# Altium schematic symbol library 可控硅.SchLib: 525 symbols (part 2 of 2)
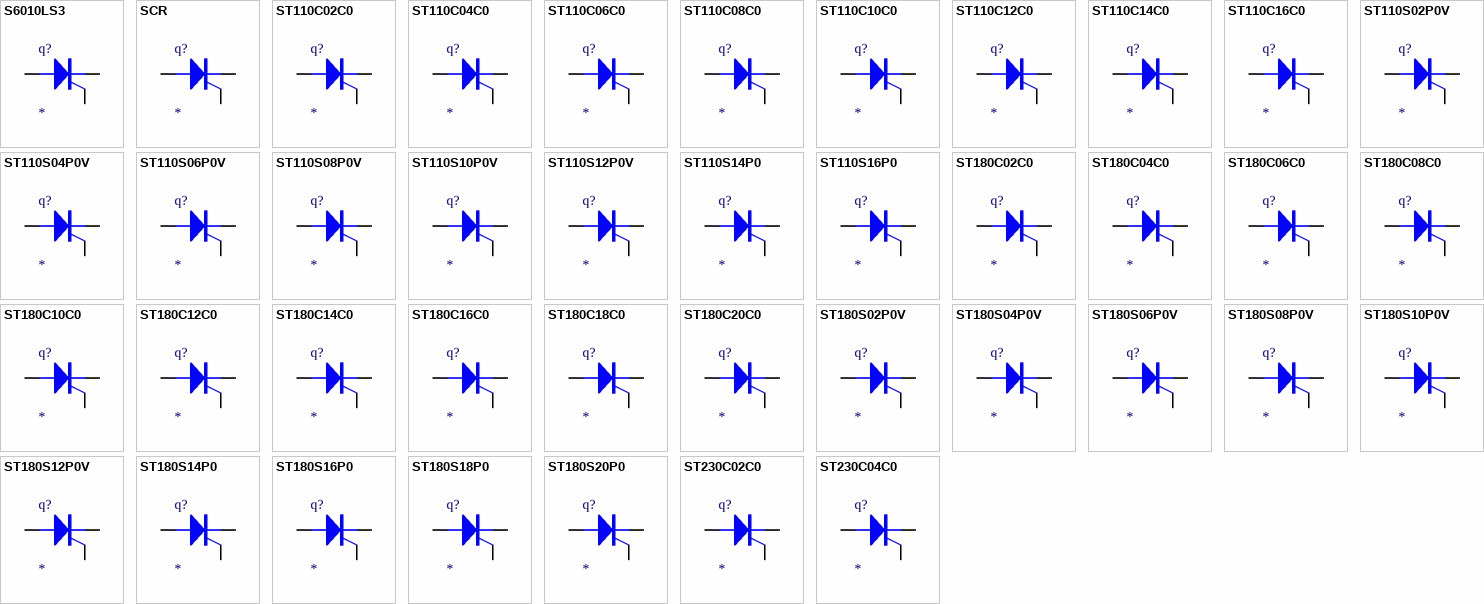
[diagram p14: symbols S6010LS3 to ST230C04C0]

## ST180C08C0
designator q?
Silicon Controlled Rectifier
simulation model ST180C08C0 (SUBCKT)
pins: 1 A, 2 G, 3 K
1 alternate drawing of the same symbol

## ST180C10C0
designator q?
Silicon Controlled Rectifier
simulation model ST180C10C0 (SUBCKT)
pins: 1 A, 2 G, 3 K
1 alternate drawing of the same symbol

## ST180C12C0
designator q?
Silicon Controlled Rectifier
simulation model ST180C12C0 (SUBCKT)
pins: 1 A, 2 G, 3 K
1 alternate drawing of the same symbol

## ST180C14C0
designator q?
Silicon Controlled Rectifier
simulation model ST180C14C0 (SUBCKT)
pins: 1 A, 2 G, 3 K
1 alternate drawing of the same symbol

## ST180C16C0
designator q?
Silicon Controlled Rectifier
simulation model ST180C16C0 (SUBCKT)
pins: 1 A, 2 G, 3 K
1 alternate drawing of the same symbol

## ST180C18C0
designator q?
Silicon Controlled Rectifier
simulation model ST180C18C0 (SUBCKT)
pins: 1 A, 2 G, 3 K
1 alternate drawing of the same symbol

## ST180C20C0
designator q?
Silicon Controlled Rectifier
simulation model ST180C20C0 (SUBCKT)
pins: 1 A, 2 G, 3 K
1 alternate drawing of the same symbol

## ST180S02P0V
designator q?
Silicon Controlled Rectifier
simulation model ST180S02P0V (SUBCKT)
pins: 1 A, 2 G, 3 K
1 alternate drawing of the same symbol

## ST180S04P0V
designator q?
Silicon Controlled Rectifier
simulation model ST180S04P0V (SUBCKT)
pins: 1 A, 2 G, 3 K
1 alternate drawing of the same symbol

## ST180S06P0V
designator q?
Silicon Controlled Rectifier
simulation model ST180S06P0V (SUBCKT)
pins: 1 A, 2 G, 3 K
1 alternate drawing of the same symbol

## ST180S08P0V
designator q?
Silicon Controlled Rectifier
simulation model ST180S08P0V (SUBCKT)
pins: 1 A, 2 G, 3 K
1 alternate drawing of the same symbol

## ST180S10P0V
designator q?
Silicon Controlled Rectifier
simulation model ST180S10P0V (SUBCKT)
pins: 1 A, 2 G, 3 K
1 alternate drawing of the same symbol

## ST180S12P0V
designator q?
Silicon Controlled Rectifier
simulation model ST180S12P0V (SUBCKT)
pins: 1 A, 2 G, 3 K
1 alternate drawing of the same symbol

## ST180S14P0
designator q?
Silicon Controlled Rectifier
simulation model ST180S14P0 (SUBCKT)
pins: 1 A, 2 G, 3 K
1 alternate drawing of the same symbol

## ST180S16P0
designator q?
Silicon Controlled Rectifier
simulation model ST180S16P0 (SUBCKT)
pins: 1 A, 2 G, 3 K
1 alternate drawing of the same symbol

## ST180S18P0
designator q?
Silicon Controlled Rectifier
simulation model ST180S18P0 (SUBCKT)
pins: 1 A, 2 G, 3 K
1 alternate drawing of the same symbol

## ST180S20P0
designator q?
Silicon Controlled Rectifier
simulation model ST180S20P0 (SUBCKT)
pins: 1 A, 2 G, 3 K
1 alternate drawing of the same symbol

## ST230C02C0
designator q?
Silicon Controlled Rectifier
simulation model ST230C02C0 (SUBCKT)
pins: 1 A, 2 G, 3 K
1 alternate drawing of the same symbol

## ST230C04C0
designator q?
Silicon Controlled Rectifier
simulation model ST230C04C0 (SUBCKT)
pins: 1 A, 2 G, 3 K
1 alternate drawing of the same symbol

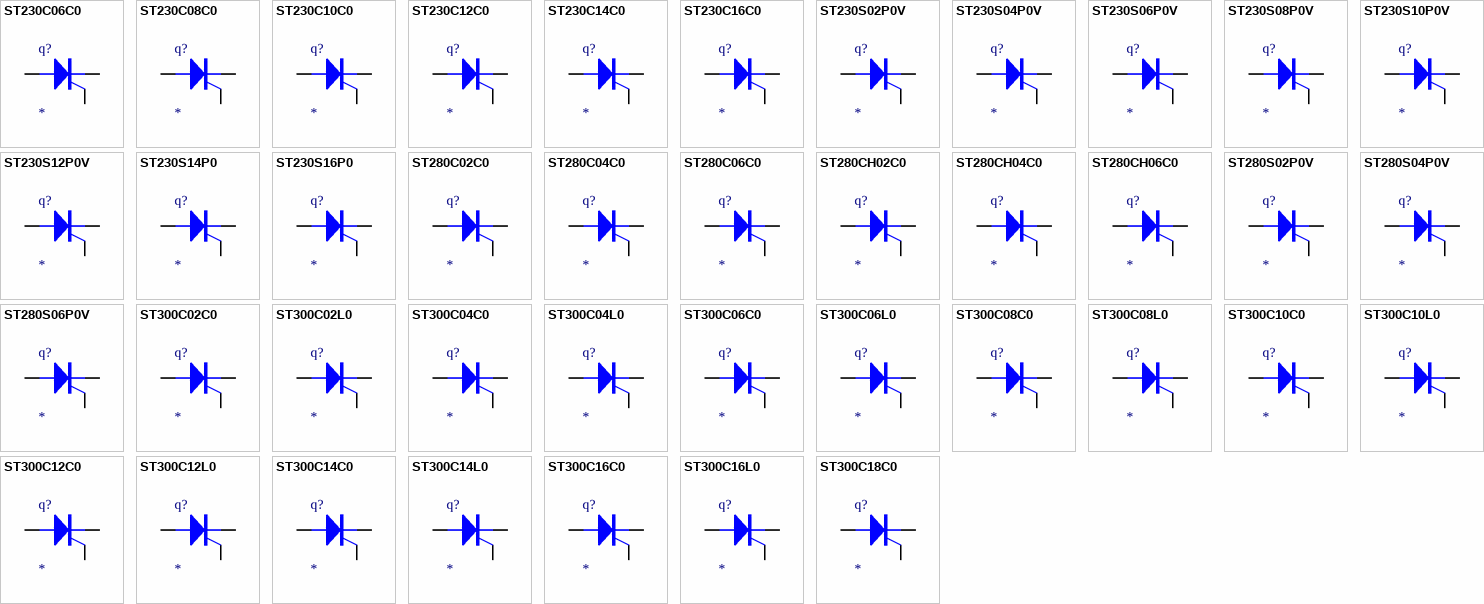
[diagram p9: symbols ST230C06C0 to ST300C18C0]

## ST230C06C0
designator q?
Silicon Controlled Rectifier
simulation model ST230C06C0 (SUBCKT)
pins: 1 A, 2 G, 3 K
1 alternate drawing of the same symbol

## ST230C08C0
designator q?
Silicon Controlled Rectifier
simulation model ST230C08C0 (SUBCKT)
pins: 1 A, 2 G, 3 K
1 alternate drawing of the same symbol

## ST230C10C0
designator q?
Silicon Controlled Rectifier
simulation model ST230C10C0 (SUBCKT)
pins: 1 A, 2 G, 3 K
1 alternate drawing of the same symbol

## ST230C12C0
designator q?
Silicon Controlled Rectifier
simulation model ST230C12C0 (SUBCKT)
pins: 1 A, 2 G, 3 K
1 alternate drawing of the same symbol

## ST230C14C0
designator q?
Silicon Controlled Rectifier
simulation model ST230C14C0 (SUBCKT)
pins: 1 A, 2 G, 3 K
1 alternate drawing of the same symbol

## ST230C16C0
designator q?
Silicon Controlled Rectifier
simulation model ST230C16C0 (SUBCKT)
pins: 1 A, 2 G, 3 K
1 alternate drawing of the same symbol

## ST230S02P0V
designator q?
Silicon Controlled Rectifier
simulation model ST230S02P0V (SUBCKT)
pins: 1 A, 2 G, 3 K
1 alternate drawing of the same symbol

## ST230S04P0V
designator q?
Silicon Controlled Rectifier
simulation model ST230S04P0V (SUBCKT)
pins: 1 A, 2 G, 3 K
1 alternate drawing of the same symbol

## ST230S06P0V
designator q?
Silicon Controlled Rectifier
simulation model ST230S06P0V (SUBCKT)
pins: 1 A, 2 G, 3 K
1 alternate drawing of the same symbol

## ST230S08P0V
designator q?
Silicon Controlled Rectifier
simulation model ST230S08P0V (SUBCKT)
pins: 1 A, 2 G, 3 K
1 alternate drawing of the same symbol

## ST230S10P0V
designator q?
Silicon Controlled Rectifier
simulation model ST230S10P0V (SUBCKT)
pins: 1 A, 2 G, 3 K
1 alternate drawing of the same symbol

## ST230S12P0V
designator q?
Silicon Controlled Rectifier
simulation model ST230S12P0V (SUBCKT)
pins: 1 A, 2 G, 3 K
1 alternate drawing of the same symbol

## ST230S14P0
designator q?
Silicon Controlled Rectifier
simulation model ST230S14P0 (SUBCKT)
pins: 1 A, 2 G, 3 K
1 alternate drawing of the same symbol

## ST230S16P0
designator q?
Silicon Controlled Rectifier
simulation model ST230S16P0 (SUBCKT)
pins: 1 A, 2 G, 3 K
1 alternate drawing of the same symbol

## ST280C02C0
designator q?
Silicon Controlled Rectifier
simulation model ST280C02C0 (SUBCKT)
pins: 1 A, 2 G, 3 K
1 alternate drawing of the same symbol

## ST280C04C0
designator q?
Silicon Controlled Rectifier
simulation model ST280C04C0 (SUBCKT)
pins: 1 A, 2 G, 3 K
1 alternate drawing of the same symbol

## ST280C06C0
designator q?
Silicon Controlled Rectifier
simulation model ST280C06C0 (SUBCKT)
pins: 1 A, 2 G, 3 K
1 alternate drawing of the same symbol

## ST280CH02C0
designator q?
Silicon Controlled Rectifier
simulation model ST280CH02C0 (SUBCKT)
pins: 1 A, 2 G, 3 K
1 alternate drawing of the same symbol

## ST280CH04C0
designator q?
Silicon Controlled Rectifier
simulation model ST280CH04C0 (SUBCKT)
pins: 1 A, 2 G, 3 K
1 alternate drawing of the same symbol

## ST280CH06C0
designator q?
Silicon Controlled Rectifier
simulation model ST280CH06C0 (SUBCKT)
pins: 1 A, 2 G, 3 K
1 alternate drawing of the same symbol

## ST280S02P0V
designator q?
Silicon Controlled Rectifier
simulation model ST280S02P0V (SUBCKT)
pins: 1 A, 2 G, 3 K
1 alternate drawing of the same symbol

## ST280S04P0V
designator q?
Silicon Controlled Rectifier
simulation model ST280S04P0V (SUBCKT)
pins: 1 A, 2 G, 3 K
1 alternate drawing of the same symbol

## ST280S06P0V
designator q?
Silicon Controlled Rectifier
simulation model ST280S06P0V (SUBCKT)
pins: 1 A, 2 G, 3 K
1 alternate drawing of the same symbol

## ST300C02C0
designator q?
Silicon Controlled Rectifier
simulation model ST300C02C0 (SUBCKT)
pins: 1 A, 2 G, 3 K
1 alternate drawing of the same symbol

## ST300C02L0
designator q?
Silicon Controlled Rectifier
simulation model ST300C02L0 (SUBCKT)
pins: 1 A, 2 G, 3 K
1 alternate drawing of the same symbol

## ST300C04C0
designator q?
Silicon Controlled Rectifier
simulation model ST300C04C0 (SUBCKT)
pins: 1 A, 2 G, 3 K
1 alternate drawing of the same symbol

## ST300C04L0
designator q?
Silicon Controlled Rectifier
simulation model ST300C04L0 (SUBCKT)
pins: 1 A, 2 G, 3 K
1 alternate drawing of the same symbol

## ST300C06C0
designator q?
Silicon Controlled Rectifier
simulation model ST300C06C0 (SUBCKT)
pins: 1 A, 2 G, 3 K
1 alternate drawing of the same symbol

## ST300C06L0
designator q?
Silicon Controlled Rectifier
simulation model ST300C06L0 (SUBCKT)
pins: 1 A, 2 G, 3 K
1 alternate drawing of the same symbol

## ST300C08C0
designator q?
Silicon Controlled Rectifier
simulation model ST300C08C0 (SUBCKT)
pins: 1 A, 2 G, 3 K
1 alternate drawing of the same symbol

## ST300C08L0
designator q?
Silicon Controlled Rectifier
simulation model ST300C08L0 (SUBCKT)
pins: 1 A, 2 G, 3 K
1 alternate drawing of the same symbol

## ST300C10C0
designator q?
Silicon Controlled Rectifier
simulation model ST300C10C0 (SUBCKT)
pins: 1 A, 2 G, 3 K
1 alternate drawing of the same symbol

## ST300C10L0
designator q?
Silicon Controlled Rectifier
simulation model ST300C10L0 (SUBCKT)
pins: 1 A, 2 G, 3 K
1 alternate drawing of the same symbol

## ST300C12C0
designator q?
Silicon Controlled Rectifier
simulation model ST300C12C0 (SUBCKT)
pins: 1 A, 2 G, 3 K
1 alternate drawing of the same symbol

## ST300C12L0
designator q?
Silicon Controlled Rectifier
simulation model ST300C12L0 (SUBCKT)
pins: 1 A, 2 G, 3 K
1 alternate drawing of the same symbol

## ST300C14C0
designator q?
Silicon Controlled Rectifier
simulation model ST300C14C0 (SUBCKT)
pins: 1 A, 2 G, 3 K
1 alternate drawing of the same symbol

## ST300C14L0
designator q?
Silicon Controlled Rectifier
simulation model ST300C14L0 (SUBCKT)
pins: 1 A, 2 G, 3 K
1 alternate drawing of the same symbol

## ST300C16C0
designator q?
Silicon Controlled Rectifier
simulation model ST300C16C0 (SUBCKT)
pins: 1 A, 2 G, 3 K
1 alternate drawing of the same symbol

## ST300C16L0
designator q?
Silicon Controlled Rectifier
simulation model ST300C16L0 (SUBCKT)
pins: 1 A, 2 G, 3 K
1 alternate drawing of the same symbol

## ST300C18C0
designator q?
Silicon Controlled Rectifier
simulation model ST300C18C0 (SUBCKT)
pins: 1 A, 2 G, 3 K
1 alternate drawing of the same symbol

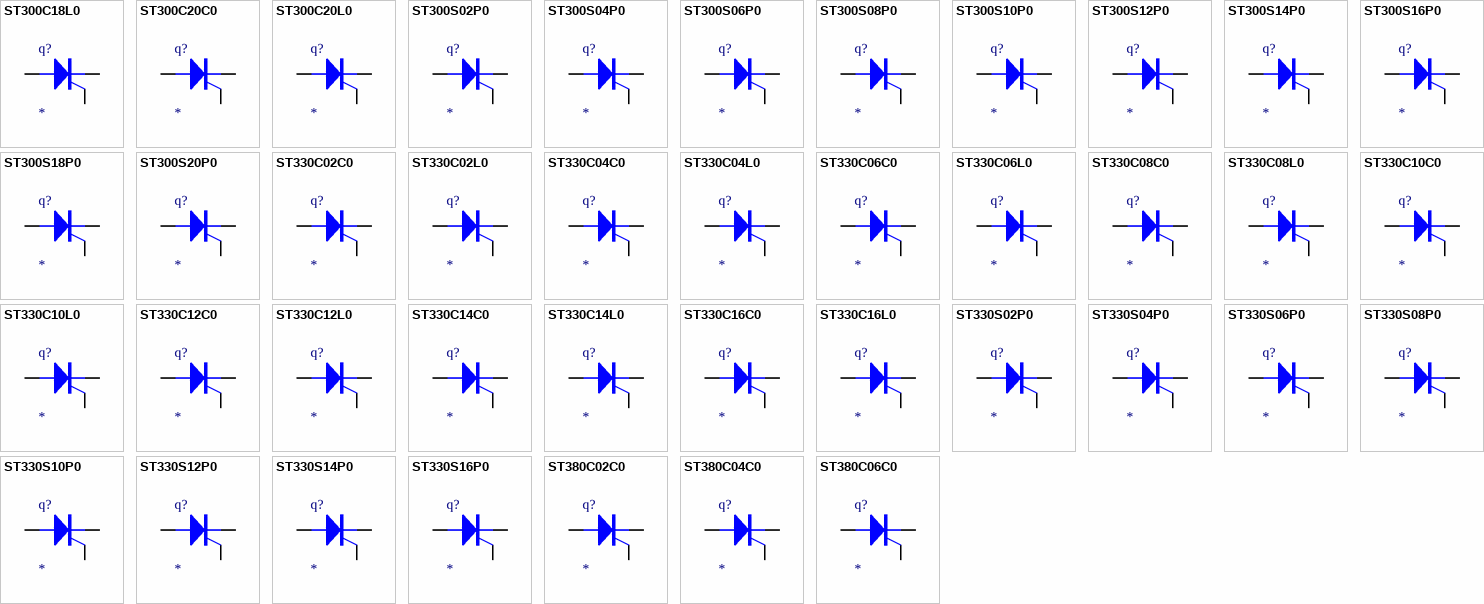
[diagram p10: symbols ST300C18L0 to ST380C06C0]

## ST300C18L0
designator q?
Silicon Controlled Rectifier
simulation model ST300C18L0 (SUBCKT)
pins: 1 A, 2 G, 3 K
1 alternate drawing of the same symbol

## ST300C20C0
designator q?
Silicon Controlled Rectifier
simulation model ST300C20C0 (SUBCKT)
pins: 1 A, 2 G, 3 K
1 alternate drawing of the same symbol

## ST300C20L0
designator q?
Silicon Controlled Rectifier
simulation model ST300C20L0 (SUBCKT)
pins: 1 A, 2 G, 3 K
1 alternate drawing of the same symbol

## ST300S02P0
designator q?
Silicon Controlled Rectifier
simulation model ST300S02P0 (SUBCKT)
pins: 1 A, 2 G, 3 K
1 alternate drawing of the same symbol

## ST300S04P0
designator q?
Silicon Controlled Rectifier
simulation model ST300S04P0 (SUBCKT)
pins: 1 A, 2 G, 3 K
1 alternate drawing of the same symbol

## ST300S06P0
designator q?
Silicon Controlled Rectifier
simulation model ST300S06P0 (SUBCKT)
pins: 1 A, 2 G, 3 K
1 alternate drawing of the same symbol

## ST300S08P0
designator q?
Silicon Controlled Rectifier
simulation model ST300S08P0 (SUBCKT)
pins: 1 A, 2 G, 3 K
1 alternate drawing of the same symbol

## ST300S10P0
designator q?
Silicon Controlled Rectifier
simulation model ST300S10P0 (SUBCKT)
pins: 1 A, 2 G, 3 K
1 alternate drawing of the same symbol

## ST300S12P0
designator q?
Silicon Controlled Rectifier
simulation model ST300S12P0 (SUBCKT)
pins: 1 A, 2 G, 3 K
1 alternate drawing of the same symbol

## ST300S14P0
designator q?
Silicon Controlled Rectifier
simulation model ST300S14P0 (SUBCKT)
pins: 1 A, 2 G, 3 K
1 alternate drawing of the same symbol

## ST300S16P0
designator q?
Silicon Controlled Rectifier
simulation model ST300S16P0 (SUBCKT)
pins: 1 A, 2 G, 3 K
1 alternate drawing of the same symbol

## ST300S18P0
designator q?
Silicon Controlled Rectifier
simulation model ST300S18P0 (SUBCKT)
pins: 1 A, 2 G, 3 K
1 alternate drawing of the same symbol

## ST300S20P0
designator q?
Silicon Controlled Rectifier
simulation model ST300S20P0 (SUBCKT)
pins: 1 A, 2 G, 3 K
1 alternate drawing of the same symbol

## ST330C02C0
designator q?
Silicon Controlled Rectifier
simulation model ST330C02C0 (SUBCKT)
pins: 1 A, 2 G, 3 K
1 alternate drawing of the same symbol

## ST330C02L0
designator q?
Silicon Controlled Rectifier
simulation model ST330C02L0 (SUBCKT)
pins: 1 A, 2 G, 3 K
1 alternate drawing of the same symbol

## ST330C04C0
designator q?
Silicon Controlled Rectifier
simulation model ST330C04C0 (SUBCKT)
pins: 1 A, 2 G, 3 K
1 alternate drawing of the same symbol

## ST330C04L0
designator q?
Silicon Controlled Rectifier
simulation model ST330C04L0 (SUBCKT)
pins: 1 A, 2 G, 3 K
1 alternate drawing of the same symbol

## ST330C06C0
designator q?
Silicon Controlled Rectifier
simulation model ST330C06C0 (SUBCKT)
pins: 1 A, 2 G, 3 K
1 alternate drawing of the same symbol

## ST330C06L0
designator q?
Silicon Controlled Rectifier
simulation model ST330C06L0 (SUBCKT)
pins: 1 A, 2 G, 3 K
1 alternate drawing of the same symbol

## ST330C08C0
designator q?
Silicon Controlled Rectifier
simulation model ST330C08C0 (SUBCKT)
pins: 1 A, 2 G, 3 K
1 alternate drawing of the same symbol

## ST330C08L0
designator q?
Silicon Controlled Rectifier
simulation model ST330C08L0 (SUBCKT)
pins: 1 A, 2 G, 3 K
1 alternate drawing of the same symbol

## ST330C10C0
designator q?
Silicon Controlled Rectifier
simulation model ST330C10C0 (SUBCKT)
pins: 1 A, 2 G, 3 K
1 alternate drawing of the same symbol

## ST330C10L0
designator q?
Silicon Controlled Rectifier
simulation model ST330C10L0 (SUBCKT)
pins: 1 A, 2 G, 3 K
1 alternate drawing of the same symbol

## ST330C12C0
designator q?
Silicon Controlled Rectifier
simulation model ST330C12C0 (SUBCKT)
pins: 1 A, 2 G, 3 K
1 alternate drawing of the same symbol

## ST330C12L0
designator q?
Silicon Controlled Rectifier
simulation model ST330C12L0 (SUBCKT)
pins: 1 A, 2 G, 3 K
1 alternate drawing of the same symbol

## ST330C14C0
designator q?
Silicon Controlled Rectifier
simulation model ST330C14C0 (SUBCKT)
pins: 1 A, 2 G, 3 K
1 alternate drawing of the same symbol

## ST330C14L0
designator q?
Silicon Controlled Rectifier
simulation model ST330C14L0 (SUBCKT)
pins: 1 A, 2 G, 3 K
1 alternate drawing of the same symbol

## ST330C16C0
designator q?
Silicon Controlled Rectifier
simulation model ST330C16C0 (SUBCKT)
pins: 1 A, 2 G, 3 K
1 alternate drawing of the same symbol

## ST330C16L0
designator q?
Silicon Controlled Rectifier
simulation model ST330C16L0 (SUBCKT)
pins: 1 A, 2 G, 3 K
1 alternate drawing of the same symbol

## ST330S02P0
designator q?
Silicon Controlled Rectifier
simulation model ST330S02P0 (SUBCKT)
pins: 1 A, 2 G, 3 K
1 alternate drawing of the same symbol

## ST330S04P0
designator q?
Silicon Controlled Rectifier
simulation model ST330S04P0 (SUBCKT)
pins: 1 A, 2 G, 3 K
1 alternate drawing of the same symbol

## ST330S06P0
designator q?
Silicon Controlled Rectifier
simulation model ST330S06P0 (SUBCKT)
pins: 1 A, 2 G, 3 K
1 alternate drawing of the same symbol

## ST330S08P0
designator q?
Silicon Controlled Rectifier
simulation model ST330S08P0 (SUBCKT)
pins: 1 A, 2 G, 3 K
1 alternate drawing of the same symbol

## ST330S10P0
designator q?
Silicon Controlled Rectifier
simulation model ST330S10P0 (SUBCKT)
pins: 1 A, 2 G, 3 K
1 alternate drawing of the same symbol

## ST330S12P0
designator q?
Silicon Controlled Rectifier
simulation model ST330S12P0 (SUBCKT)
pins: 1 A, 2 G, 3 K
1 alternate drawing of the same symbol

## ST330S14P0
designator q?
Silicon Controlled Rectifier
simulation model ST330S14P0 (SUBCKT)
pins: 1 A, 2 G, 3 K
1 alternate drawing of the same symbol

## ST330S16P0
designator q?
Silicon Controlled Rectifier
simulation model ST330S16P0 (SUBCKT)
pins: 1 A, 2 G, 3 K
1 alternate drawing of the same symbol

## ST380C02C0
designator q?
Silicon Controlled Rectifier
simulation model ST380C02C0 (SUBCKT)
pins: 1 A, 2 G, 3 K
1 alternate drawing of the same symbol

## ST380C04C0
designator q?
Silicon Controlled Rectifier
simulation model ST380C04C0 (SUBCKT)
pins: 1 A, 2 G, 3 K
1 alternate drawing of the same symbol

## ST380C06C0
designator q?
Silicon Controlled Rectifier
simulation model ST380C06C0 (SUBCKT)
pins: 1 A, 2 G, 3 K
1 alternate drawing of the same symbol

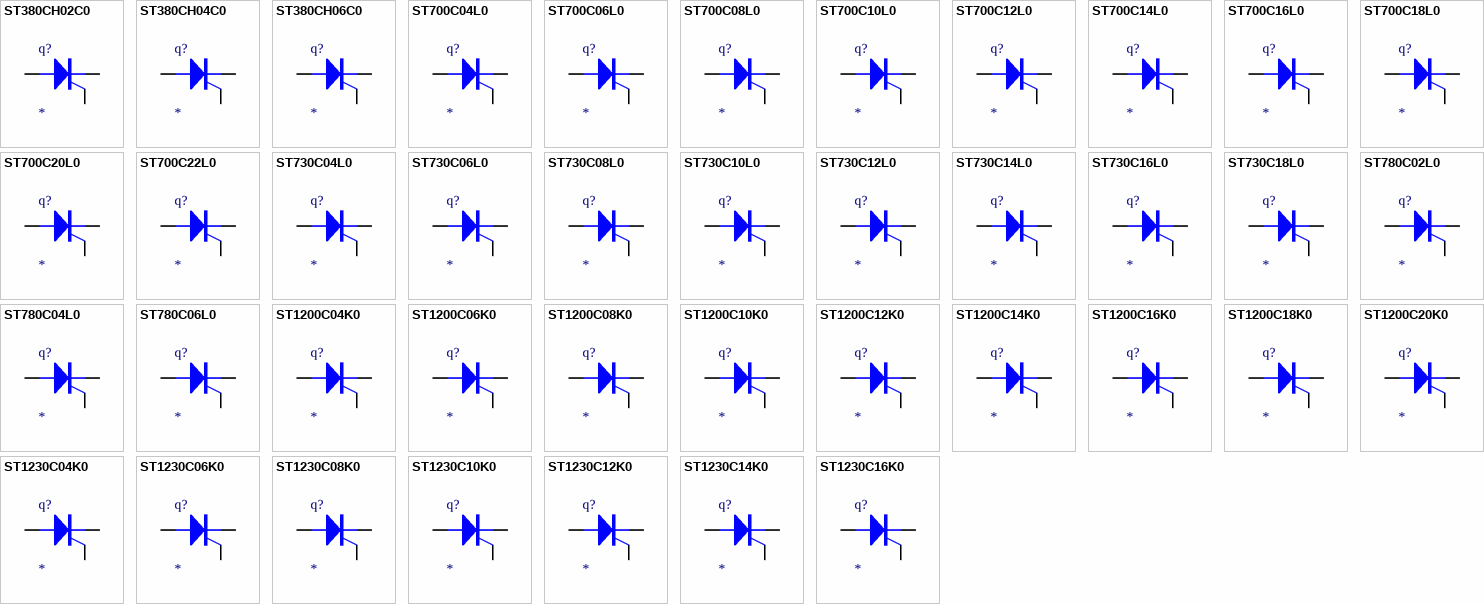
[diagram p11: symbols ST380CH02C0 to ST1230C16K0]

## ST380CH02C0
designator q?
Silicon Controlled Rectifier
simulation model ST380CH02C0 (SUBCKT)
pins: 1 A, 2 G, 3 K
1 alternate drawing of the same symbol

## ST380CH04C0
designator q?
Silicon Controlled Rectifier
simulation model ST380CH04C0 (SUBCKT)
pins: 1 A, 2 G, 3 K
1 alternate drawing of the same symbol

## ST380CH06C0
designator q?
Silicon Controlled Rectifier
simulation model ST380CH06C0 (SUBCKT)
pins: 1 A, 2 G, 3 K
1 alternate drawing of the same symbol

## ST700C04L0
designator q?
Silicon Controlled Rectifier
simulation model ST700C04L0 (SUBCKT)
pins: 1 A, 2 G, 3 K
1 alternate drawing of the same symbol

## ST700C06L0
designator q?
Silicon Controlled Rectifier
simulation model ST700C06L0 (SUBCKT)
pins: 1 A, 2 G, 3 K
1 alternate drawing of the same symbol

## ST700C08L0
designator q?
Silicon Controlled Rectifier
simulation model ST700C08L0 (SUBCKT)
pins: 1 A, 2 G, 3 K
1 alternate drawing of the same symbol

## ST700C10L0
designator q?
Silicon Controlled Rectifier
simulation model ST700C10L0 (SUBCKT)
pins: 1 A, 2 G, 3 K
1 alternate drawing of the same symbol

## ST700C12L0
designator q?
Silicon Controlled Rectifier
simulation model ST700C12L0 (SUBCKT)
pins: 1 A, 2 G, 3 K
1 alternate drawing of the same symbol

## ST700C14L0
designator q?
Silicon Controlled Rectifier
simulation model ST700C14L0 (SUBCKT)
pins: 1 A, 2 G, 3 K
1 alternate drawing of the same symbol

## ST700C16L0
designator q?
Silicon Controlled Rectifier
simulation model ST700C16L0 (SUBCKT)
pins: 1 A, 2 G, 3 K
1 alternate drawing of the same symbol

## ST700C18L0
designator q?
Silicon Controlled Rectifier
simulation model ST700C18L0 (SUBCKT)
pins: 1 A, 2 G, 3 K
1 alternate drawing of the same symbol

## ST700C20L0
designator q?
Silicon Controlled Rectifier
simulation model ST700C20L0 (SUBCKT)
pins: 1 A, 2 G, 3 K
1 alternate drawing of the same symbol

## ST700C22L0
designator q?
Silicon Controlled Rectifier
simulation model ST700C22L0 (SUBCKT)
pins: 1 A, 2 G, 3 K
1 alternate drawing of the same symbol

## ST730C04L0
designator q?
Silicon Controlled Rectifier
simulation model ST730C04L0 (SUBCKT)
pins: 1 A, 2 G, 3 K
1 alternate drawing of the same symbol

## ST730C06L0
designator q?
Silicon Controlled Rectifier
simulation model ST730C06L0 (SUBCKT)
pins: 1 A, 2 G, 3 K
1 alternate drawing of the same symbol

## ST730C08L0
designator q?
Silicon Controlled Rectifier
simulation model ST730C08L0 (SUBCKT)
pins: 1 A, 2 G, 3 K
1 alternate drawing of the same symbol

## ST730C10L0
designator q?
Silicon Controlled Rectifier
simulation model ST730C10L0 (SUBCKT)
pins: 1 A, 2 G, 3 K
1 alternate drawing of the same symbol

## ST730C12L0
designator q?
Silicon Controlled Rectifier
simulation model ST730C12L0 (SUBCKT)
pins: 1 A, 2 G, 3 K
1 alternate drawing of the same symbol

## ST730C14L0
designator q?
Silicon Controlled Rectifier
simulation model ST730C14L0 (SUBCKT)
pins: 1 A, 2 G, 3 K
1 alternate drawing of the same symbol

## ST730C16L0
designator q?
Silicon Controlled Rectifier
simulation model ST730C16L0 (SUBCKT)
pins: 1 A, 2 G, 3 K
1 alternate drawing of the same symbol

## ST730C18L0
designator q?
Silicon Controlled Rectifier
simulation model ST730C18L0 (SUBCKT)
pins: 1 A, 2 G, 3 K
1 alternate drawing of the same symbol

## ST780C02L0
designator q?
Silicon Controlled Rectifier
simulation model ST780C02L0 (SUBCKT)
pins: 1 A, 2 G, 3 K
1 alternate drawing of the same symbol

## ST780C04L0
designator q?
Silicon Controlled Rectifier
simulation model ST780C04L0 (SUBCKT)
pins: 1 A, 2 G, 3 K
1 alternate drawing of the same symbol

## ST780C06L0
designator q?
Silicon Controlled Rectifier
simulation model ST780C06L0 (SUBCKT)
pins: 1 A, 2 G, 3 K
1 alternate drawing of the same symbol

## ST1200C04K0
designator q?
Silicon Controlled Rectifier
simulation model ST1200C04K0 (SUBCKT)
pins: 1 A, 2 G, 3 K
1 alternate drawing of the same symbol

## ST1200C06K0
designator q?
Silicon Controlled Rectifier
simulation model ST1200C06K0 (SUBCKT)
pins: 1 A, 2 G, 3 K
1 alternate drawing of the same symbol

## ST1200C08K0
designator q?
Silicon Controlled Rectifier
simulation model ST1200C08K0 (SUBCKT)
pins: 1 A, 2 G, 3 K
1 alternate drawing of the same symbol

## ST1200C10K0
designator q?
Silicon Controlled Rectifier
simulation model ST1200C10K0 (SUBCKT)
pins: 1 A, 2 G, 3 K
1 alternate drawing of the same symbol

## ST1200C12K0
designator q?
Silicon Controlled Rectifier
simulation model ST1200C12K0 (SUBCKT)
pins: 1 A, 2 G, 3 K
1 alternate drawing of the same symbol

## ST1200C14K0
designator q?
Silicon Controlled Rectifier
simulation model ST1200C14K0 (SUBCKT)
pins: 1 A, 2 G, 3 K
1 alternate drawing of the same symbol

## ST1200C16K0
designator q?
Silicon Controlled Rectifier
simulation model ST1200C16K0 (SUBCKT)
pins: 1 A, 2 G, 3 K
1 alternate drawing of the same symbol

## ST1200C18K0
designator q?
Silicon Controlled Rectifier
simulation model ST1200C18K0 (SUBCKT)
pins: 1 A, 2 G, 3 K
1 alternate drawing of the same symbol

## ST1200C20K0
designator q?
Silicon Controlled Rectifier
simulation model ST1200C20K0 (SUBCKT)
pins: 1 A, 2 G, 3 K
1 alternate drawing of the same symbol

## ST1230C04K0
designator q?
Silicon Controlled Rectifier
simulation model ST1230C04K0 (SUBCKT)
pins: 1 A, 2 G, 3 K
1 alternate drawing of the same symbol

## ST1230C06K0
designator q?
Silicon Controlled Rectifier
simulation model ST1230C06K0 (SUBCKT)
pins: 1 A, 2 G, 3 K
1 alternate drawing of the same symbol

## ST1230C08K0
designator q?
Silicon Controlled Rectifier
simulation model ST1230C08K0 (SUBCKT)
pins: 1 A, 2 G, 3 K
1 alternate drawing of the same symbol

## ST1230C10K0
designator q?
Silicon Controlled Rectifier
simulation model ST1230C10K0 (SUBCKT)
pins: 1 A, 2 G, 3 K
1 alternate drawing of the same symbol

## ST1230C12K0
designator q?
Silicon Controlled Rectifier
simulation model ST1230C12K0 (SUBCKT)
pins: 1 A, 2 G, 3 K
1 alternate drawing of the same symbol

## ST1230C14K0
designator q?
Silicon Controlled Rectifier
simulation model ST1230C14K0 (SUBCKT)
pins: 1 A, 2 G, 3 K
1 alternate drawing of the same symbol

## ST1230C16K0
designator q?
Silicon Controlled Rectifier
simulation model ST1230C16K0 (SUBCKT)
pins: 1 A, 2 G, 3 K
1 alternate drawing of the same symbol

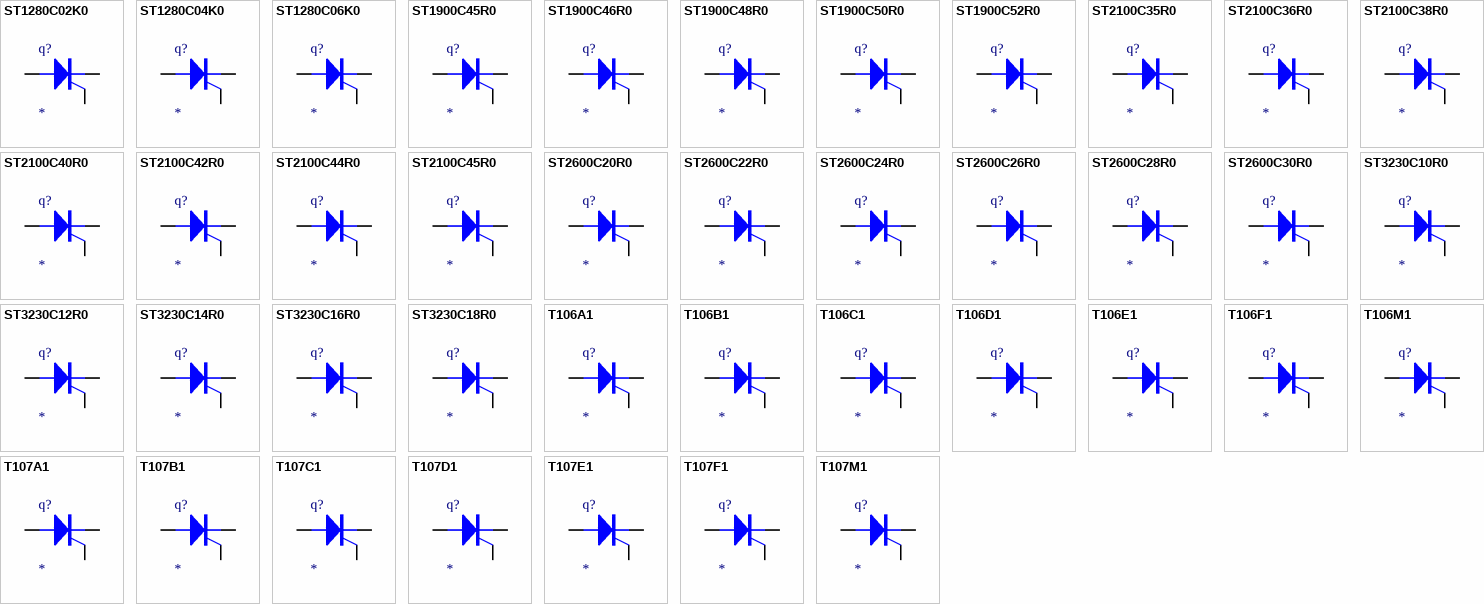
[diagram p12: symbols ST1280C02K0 to T107M1]

## ST1280C02K0
designator q?
Silicon Controlled Rectifier
simulation model ST1280C02K0 (SUBCKT)
pins: 1 A, 2 G, 3 K
1 alternate drawing of the same symbol

## ST1280C04K0
designator q?
Silicon Controlled Rectifier
simulation model ST1280C04K0 (SUBCKT)
pins: 1 A, 2 G, 3 K
1 alternate drawing of the same symbol

## ST1280C06K0
designator q?
Silicon Controlled Rectifier
simulation model ST1280C06K0 (SUBCKT)
pins: 1 A, 2 G, 3 K
1 alternate drawing of the same symbol

## ST1900C45R0
designator q?
Silicon Controlled Rectifier
simulation model ST1900C45R0 (SUBCKT)
pins: 1 A, 2 G, 3 K
1 alternate drawing of the same symbol

## ST1900C46R0
designator q?
Silicon Controlled Rectifier
simulation model ST1900C46R0 (SUBCKT)
pins: 1 A, 2 G, 3 K
1 alternate drawing of the same symbol

## ST1900C48R0
designator q?
Silicon Controlled Rectifier
simulation model ST1900C48R0 (SUBCKT)
pins: 1 A, 2 G, 3 K
1 alternate drawing of the same symbol

## ST1900C50R0
designator q?
Silicon Controlled Rectifier
simulation model ST1900C50R0 (SUBCKT)
pins: 1 A, 2 G, 3 K
1 alternate drawing of the same symbol

## ST1900C52R0
designator q?
Silicon Controlled Rectifier
simulation model ST1900C52R0 (SUBCKT)
pins: 1 A, 2 G, 3 K
1 alternate drawing of the same symbol

## ST2100C35R0
designator q?
Silicon Controlled Rectifier
simulation model ST2100C35R0 (SUBCKT)
pins: 1 A, 2 G, 3 K
1 alternate drawing of the same symbol

## ST2100C36R0
designator q?
Silicon Controlled Rectifier
simulation model ST2100C36R0 (SUBCKT)
pins: 1 A, 2 G, 3 K
1 alternate drawing of the same symbol

## ST2100C38R0
designator q?
Silicon Controlled Rectifier
simulation model ST2100C38R0 (SUBCKT)
pins: 1 A, 2 G, 3 K
1 alternate drawing of the same symbol

## ST2100C40R0
designator q?
Silicon Controlled Rectifier
simulation model ST2100C40R0 (SUBCKT)
pins: 1 A, 2 G, 3 K
1 alternate drawing of the same symbol

## ST2100C42R0
designator q?
Silicon Controlled Rectifier
simulation model ST2100C42R0 (SUBCKT)
pins: 1 A, 2 G, 3 K
1 alternate drawing of the same symbol

## ST2100C44R0
designator q?
Silicon Controlled Rectifier
simulation model ST2100C44R0 (SUBCKT)
pins: 1 A, 2 G, 3 K
1 alternate drawing of the same symbol

## ST2100C45R0
designator q?
Silicon Controlled Rectifier
simulation model ST2100C45R0 (SUBCKT)
pins: 1 A, 2 G, 3 K
1 alternate drawing of the same symbol

## ST2600C20R0
designator q?
Silicon Controlled Rectifier
simulation model ST2600C20R0 (SUBCKT)
pins: 1 A, 2 G, 3 K
1 alternate drawing of the same symbol

## ST2600C22R0
designator q?
Silicon Controlled Rectifier
simulation model ST2600C22R0 (SUBCKT)
pins: 1 A, 2 G, 3 K
1 alternate drawing of the same symbol

## ST2600C24R0
designator q?
Silicon Controlled Rectifier
simulation model ST2600C24R0 (SUBCKT)
pins: 1 A, 2 G, 3 K
1 alternate drawing of the same symbol

## ST2600C26R0
designator q?
Silicon Controlled Rectifier
simulation model ST2600C26R0 (SUBCKT)
pins: 1 A, 2 G, 3 K
1 alternate drawing of the same symbol

## ST2600C28R0
designator q?
Silicon Controlled Rectifier
simulation model ST2600C28R0 (SUBCKT)
pins: 1 A, 2 G, 3 K
1 alternate drawing of the same symbol

## ST2600C30R0
designator q?
Silicon Controlled Rectifier
simulation model ST2600C30R0 (SUBCKT)
pins: 1 A, 2 G, 3 K
1 alternate drawing of the same symbol

## ST3230C10R0
designator q?
Silicon Controlled Rectifier
simulation model ST3230C10R0 (SUBCKT)
pins: 1 A, 2 G, 3 K
1 alternate drawing of the same symbol

## ST3230C12R0
designator q?
Silicon Controlled Rectifier
simulation model ST3230C12R0 (SUBCKT)
pins: 1 A, 2 G, 3 K
1 alternate drawing of the same symbol

## ST3230C14R0
designator q?
Silicon Controlled Rectifier
simulation model ST3230C14R0 (SUBCKT)
pins: 1 A, 2 G, 3 K
1 alternate drawing of the same symbol

## ST3230C16R0
designator q?
Silicon Controlled Rectifier
simulation model ST3230C16R0 (SUBCKT)
pins: 1 A, 2 G, 3 K
1 alternate drawing of the same symbol

## ST3230C18R0
designator q?
Silicon Controlled Rectifier
simulation model ST3230C18R0 (SUBCKT)
pins: 1 A, 2 G, 3 K
1 alternate drawing of the same symbol

## T106A1
designator q?
Silicon Controlled Rectifier
simulation model T106A1 (SUBCKT)
pins: 1 A, 2 G, 3 K
1 alternate drawing of the same symbol

## T106B1
designator q?
Silicon Controlled Rectifier
simulation model T106B1 (SUBCKT)
pins: 1 A, 2 G, 3 K
1 alternate drawing of the same symbol

## T106C1
designator q?
Silicon Controlled Rectifier
simulation model T106C1 (SUBCKT)
pins: 1 A, 2 G, 3 K
1 alternate drawing of the same symbol

## T106D1
designator q?
Silicon Controlled Rectifier
simulation model T106D1 (SUBCKT)
pins: 1 A, 2 G, 3 K
1 alternate drawing of the same symbol

## T106E1
designator q?
Silicon Controlled Rectifier
simulation model T106E1 (SUBCKT)
pins: 1 A, 2 G, 3 K
1 alternate drawing of the same symbol

## T106F1
designator q?
Silicon Controlled Rectifier
simulation model T106F1 (SUBCKT)
pins: 1 A, 2 G, 3 K
1 alternate drawing of the same symbol

## T106M1
designator q?
Silicon Controlled Rectifier
simulation model T106M1 (SUBCKT)
pins: 1 A, 2 G, 3 K
1 alternate drawing of the same symbol

## T107A1
designator q?
Silicon Controlled Rectifier
simulation model T107A1 (SUBCKT)
pins: 1 A, 2 G, 3 K
1 alternate drawing of the same symbol

## T107B1
designator q?
Silicon Controlled Rectifier
simulation model T107B1 (SUBCKT)
pins: 1 A, 2 G, 3 K
1 alternate drawing of the same symbol

## T107C1
designator q?
Silicon Controlled Rectifier
simulation model T107C1 (SUBCKT)
pins: 1 A, 2 G, 3 K
1 alternate drawing of the same symbol

## T107D1
designator q?
Silicon Controlled Rectifier
simulation model T107D1 (SUBCKT)
pins: 1 A, 2 G, 3 K
1 alternate drawing of the same symbol

## T107E1
designator q?
Silicon Controlled Rectifier
simulation model T107E1 (SUBCKT)
pins: 1 A, 2 G, 3 K
1 alternate drawing of the same symbol

## T107F1
designator q?
Silicon Controlled Rectifier
simulation model T107F1 (SUBCKT)
pins: 1 A, 2 G, 3 K
1 alternate drawing of the same symbol

## T107M1
designator q?
Silicon Controlled Rectifier
simulation model T107M1 (SUBCKT)
pins: 1 A, 2 G, 3 K
1 alternate drawing of the same symbol

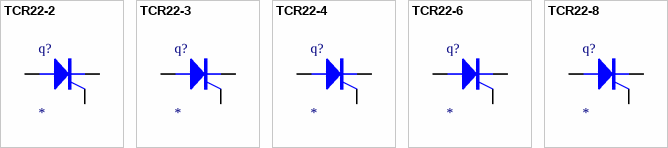
[diagram p13: symbols TCR22-2 to TCR22-8]

## TCR22-2
designator q?
Silicon Controlled Rectifier
simulation model TCR22-2 (SUBCKT)
pins: 1 A, 2 G, 3 K
1 alternate drawing of the same symbol

## TCR22-3
designator q?
Silicon Controlled Rectifier
simulation model TCR22-3 (SUBCKT)
pins: 1 A, 2 G, 3 K
1 alternate drawing of the same symbol

## TCR22-4
designator q?
Silicon Controlled Rectifier
simulation model TCR22-4 (SUBCKT)
pins: 1 A, 2 G, 3 K
1 alternate drawing of the same symbol

## TCR22-6
designator q?
Silicon Controlled Rectifier
simulation model TCR22-6 (SUBCKT)
pins: 1 A, 2 G, 3 K
1 alternate drawing of the same symbol

## TCR22-8
designator q?
Silicon Controlled Rectifier
simulation model TCR22-8 (SUBCKT)
pins: 1 A, 2 G, 3 K
1 alternate drawing of the same symbol